# EAGLE library part LP2951 (library ads4)
Voltage Regulator Low power consumption, adjustable or 3.0V/5.0V fixed output, TTL shutdown control
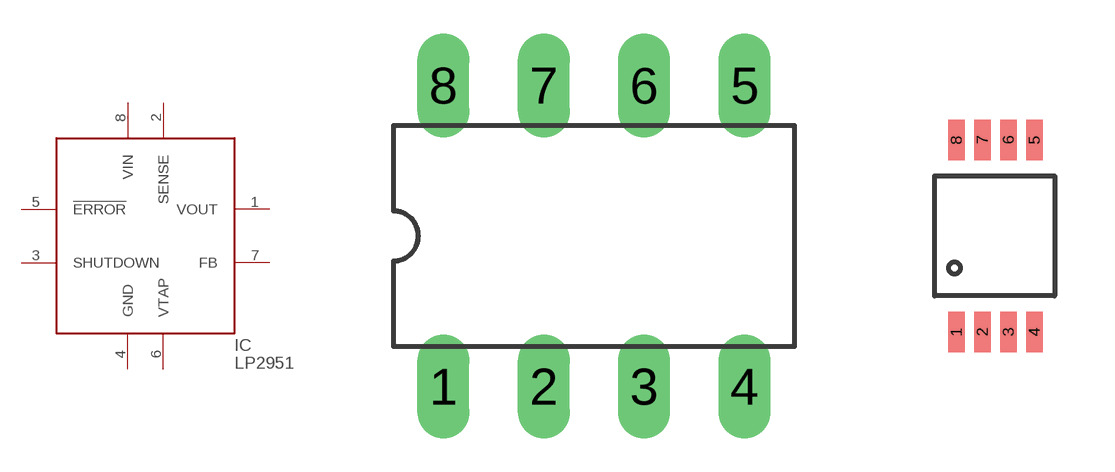
[diagram p6: symbol with the pads of DIL08; footprints DIL08, NS-MM]

Designator prefix IC

## LP2951N  [DIL08]
1  VOUT  pas
2  SENSE  pas
3  SHUTDOWN  in
4  GND  pas
5  !ERROR  oc
6  VTAP  pas
7  FB  pas
8  VIN  pas

## LP2951MM  [NS-MM]
Pads as for DIL08

## Footprint DIL08 (pad centres in mm)
8-pin Dual-In Line (copied from 74xx-us.lbr)
drill 0.813 long: 1 -3.81,-3.81; 2 -1.27,-3.81; 3 1.27,-3.81; 4 3.81,-3.81; 5 3.81,3.81; 6 1.27,3.81; 7 -1.27,3.81; 8 -3.81,3.81

## Footprint NS-MM (pad centres in mm)
National Semiconductor MM Package 8-pin SMT
smd 0.41 x 1.02: 1 -0.95,-2.4; 2 -0.3,-2.4; 3 0.35,-2.4; 4 1,-2.4; 5 1,2.4; 6 0.35,2.4; 7 -0.3,2.4; 8 -0.95,2.4